# Altium schematic symbol library ADG711BRUZ.SchLib: 1 symbol
Pins are listed as number, name and electrical type; pins without a type are passive.

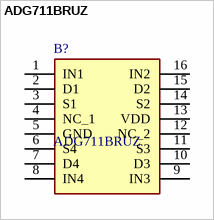
[diagram p0: symbol ADG711BRUZ]

## ADG711BRUZ
designator B?
ADG711BRUZ, Analogue SPST Switch Quad SPST, 3 V, 5 V, 16-Pin, TSSOP, 4; Manufacturer_Name: Analog Devices; Geometry.Height: 1.2mm; Farnell Part Number: *; Farnell Price/Stock: *; Manufacturer_Part_Number: ADG711BRUZ; Datasheet Link: http://www.analog.com/media/en/technical-documentation/data-sheets/ADG711_712_713.pdf
footprint SOP65P640X120-16N
pins: 1 IN1, 2 D1, 3 S1, 4 NC_1, 5 GND, 6 S4, 7 D4, 8 IN4, 9 IN3, 10 D3, 11 S3, 12 NC_2, 13 VDD, 14 S2, 15 D2, 16 IN2